# Altium footprint library Random.PcbLib: 15 footprints
Each footprint in its own frame and in the unit in brackets; x right, y up, seen from the top. Pads: shape width x height; smd on the part's side, far side on the other; paste and mask are expansions set on the pad; w line width, h text height; cw(c..) or ccw(c..) is an arc to the next point about the centre after c.
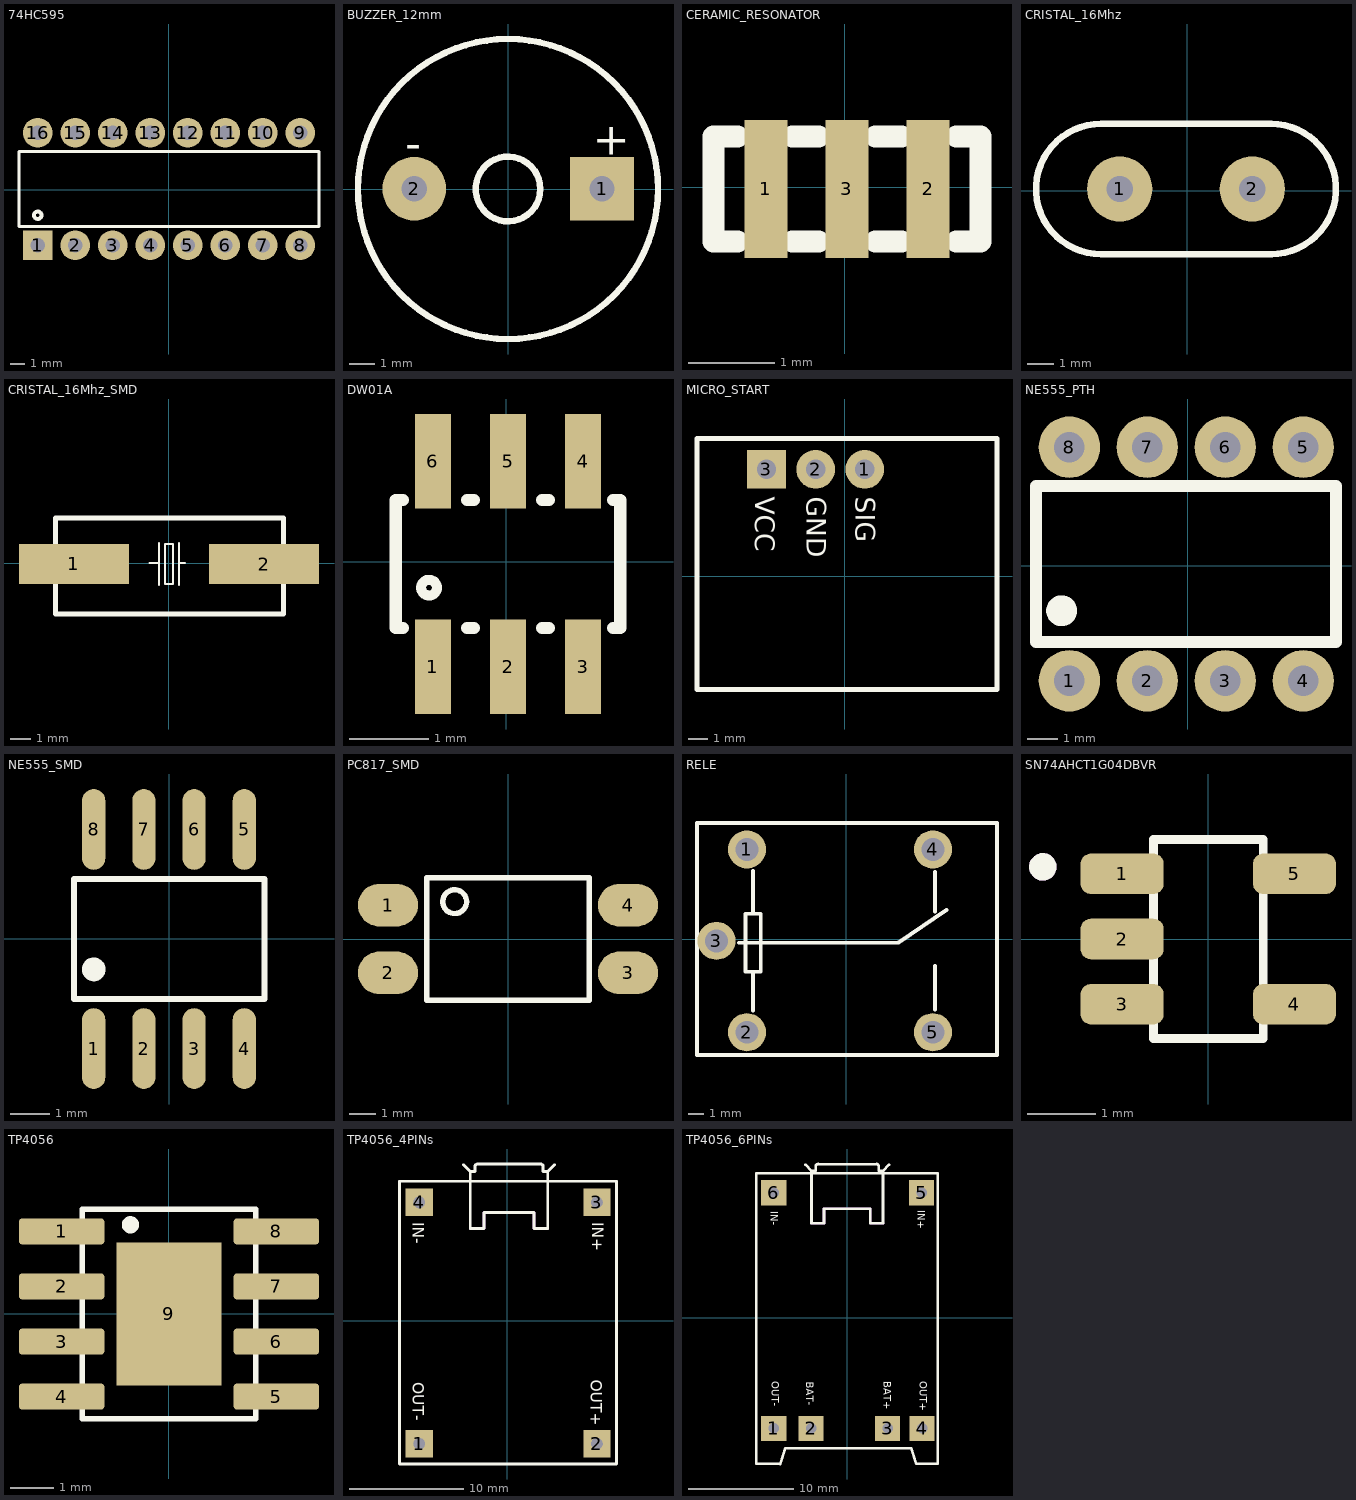
[diagram p0: the footprints below, top view; thin cyan lines are the x and y axes]

## 74HC595 [mm] "SHIFT REGISTER 8-BIT DIP-16"
pads (16):
  rect 2x2 hole 1: 1(-8.881,-3.767)
  round 2 hole 1: 2(-6.341,-3.767) 3(-3.801,-3.767) 4(-1.261,-3.767) 5(1.279,-3.767) 6(3.819,-3.767) 7(6.359,-3.767) 8(8.899,-3.767) 9(8.899,3.853) 10(6.359,3.853) 11(3.819,3.853) 12(1.279,3.853) 13(-1.261,3.853) 14(-3.801,3.853) 15(-6.341,3.853) 16(-8.881,3.853)
Top Overlay:
  circle w0.254: c-8.881,-1.735 r0.254
  lines w0.229: -10.151,-2.497 10.169,-2.497 10.169,2.583 -10.151,2.583 -10.151,-2.497
3D body "74HC595.STEP": height 8.48, standoff -2.86, extent -10.139,-5.101 10.181,5.059

## BUZZER_12mm [mm] "BUZZER MAGNETIC 12MM"
pads (2):
  rect 2.5x2.5 hole 1: 1(3.693,0.008)
  round 2.5 hole 1: 2(-3.683,0.008)
Top Overlay:
  circle w0.254: c0,0 r1.27
  circle w0.254: c0,0 r5.893
  text "-" at -4.039,1.169 h1.27
  text "+" at 3.327,1.338 h1.27
3D body "BUZZER_12mm.step": height 9.51, standoff -2.34, extent -5.997,-5.969 5.997,6.029

## CERAMIC_RESONATOR [mil]
pads (3):
  rect 19.7x63 smd: 1(-36,-0.8) 2(38,-0.8) 3(1,-0.8)
Top Overlay:
  lines w10: -49,-24.8 -60,-24.8 -60,23.2 -49,23.2 ; -24,-24.8 -12,-24.8 ; -24,23.2 -12,23.2 ; 14,-24.8 26,-24.8 ; 14,23.2 26,23.2 ; 51,-24.8 62,-24.8 62,23.2 51,23.2
3D body "CERAMIC_RESONATOR.stp": height 27.56, standoff 0, extent -61.99,-26.39 63.99,24.79

## CRISTAL_16Mhz [mm] "CRYSTAL 16MHZ PTH"
pads (2):
  round 2.5 hole 1: 1(-2.586,0.064) 2(2.494,0.064)
Top Overlay:
  lines w0.127: -3.259,2.496 3.242,2.496 3.242,2.623 -3.259,2.623 -3.259,2.496 ; -3.237,-2.498 -3.237,-2.371 3.263,-2.371 3.263,-2.498 -3.237,-2.498
  lines w0.254: -3.296,-2.436 cw(c-3.296,0.064) -3.296,2.564 ; 3.204,-2.436 ccw(c3.204,0.064) 3.204,2.564
3D body "Cristal_16MHz.STEP": height 3.55, standoff -1.95, extent -5.604,-2.177 5.396,2.323

## CRISTAL_16Mhz_SMD [mm]
pads (2):
  rect 5.5x2 smd: 1(-4.743,-0.039) 2(4.757,-0.04)
Top Overlay:
  lines w0.1: -0.963,0.004 -0.563,0.004 ; -0.5,-1.1 -0.5,1 ; -0.2,0.92 -0.2,-1.05 0.2,-1.05 0.2,0.92 ; -0.2,0.95 0.2,0.95 ; 0.5,-1.1 0.5,1 ; 0.5,0.004 0.8,0.004
  lines w0.254: -5.676,-2.543 -5.676,2.257 5.724,2.257 5.724,-2.543 -5.676,-2.543
3D body "CRYSTAL_16MHz_SMD.STEP": height 4.3, standoff 0, extent -6.604,-2.56 6.596,2.24

## DW01A [mm] "BATTERY PROTECTION IC"
pads (6):
  rect 0.45x1.2 smd: 1(-0.926,-1.332) 2(0.024,-1.332) 3(0.974,-1.332) 4(0.974,1.268) 5(0.024,1.268) 6(-0.926,1.268)
Top Overlay:
  circle w0.127: c-0.976,-0.332 r0.1
  lines w0.152: -1.304,-0.842 -1.398,-0.842 -1.398,0.778 -1.304,0.778 ; -0.498,-0.842 -0.404,-0.842 ; -0.498,0.778 -0.404,0.778 ; 0.452,-0.842 0.546,-0.842 ; 0.452,0.778 0.546,0.778 ; 1.352,-0.842 1.446,-0.842 1.446,0.778 1.352,0.778
3D body "step_temp.STEP": height 1.45, standoff 0, extent -1.426,-1.432 1.474,1.368

## MICRO_START [mm]
pads (3):
  round 2 hole 1: 1(1.047,5.523) 2(-1.493,5.523)
  rect 2x2 hole 1: 3(-4.033,5.523)
Top Overlay:
  lines w0.254: -7.62,-5.842 -7.62,7.112 7.874,7.112 7.874,-5.842 -7.62,-5.842
  text "VCC" at -4.623,4.115 h1
  text "SIG" at 0.584,4.115 h1
  text "GND" at -1.956,4.115 h1
3D body "MICROSTART.step": height 3.58, standoff 0.4, extent -7.619,-5.806 7.873,6.985

## NE555_PTH [mm]
pads (8):
  round 2 hole 1: 1(-3.864,-3.745) 2(-1.324,-3.745) 3(1.216,-3.745) 4(3.756,-3.745) 5(3.756,3.875) 6(1.216,3.875) 7(-1.324,3.875) 8(-3.864,3.875)
Top Overlay:
  circle w0.5: c-4.118,-1.459 r0.254
  lines w0.4: -4.953,-2.475 4.826,-2.475 4.826,2.605 -4.953,2.605 -4.953,-2.475
3D body "NE555_PTH.SLDPRT": height 9.41, standoff -3.17, extent -5.08,-5.334 4.953,5.588

## NE555_SMD [mm]
pads (8):
  oval 0.588x2.045 smd: 1(-1.911,-2.785) 2(-0.641,-2.785) 3(0.629,-2.785) 4(1.899,-2.785) 5(1.899,2.76) 6(0.629,2.76) 7(-0.641,2.76) 8(-1.911,2.76)
Top Overlay:
  circle w0.3: c-1.911,-0.782 r0.15
  lines w0.152: -2.413,-1.534 2.413,-1.534 2.413,1.509 -2.413,1.509 -2.413,-1.534
3D body "NE555_SMD.STEP": height 1.75, standoff 0, extent -2.451,-2.997 2.451,2.997

## PC817_SMD [mm]
pads (4):
  oval 2.25x1.6 smd: 1(-4.5,1.27) 2(-4.5,-1.27) 3(4.5,-1.27) 4(4.5,1.27)
Top Overlay:
  circle w0.2: c-2,1.4 r0.447
  lines w0.2: -3.05,-2.3 3.05,-2.3 3.05,2.3 -3.05,2.3 -3.05,-2.3
3D body "PC817 _SMD.STEP": height 3.6, standoff 0, extent -4.8,-2.3 4.8,2.3

## RELE [mm]
pads (5):
  round 2.5 hole 1.5: 1(-6.501,5.88) 2(-6.501,-6.12) 3(-8.501,-0.12) 4(5.699,5.88) 5(5.699,-6.12)
Top Overlay:
  lines w0.254: -7.026,-0.247 3.425,-0.247 6.6,1.912 ; -6.1,-4.694 -6.1,-2.152 ; -6.1,1.658 -6.1,4.454 ; 5.838,-4.645 5.838,-1.771 ; 5.838,1.785 5.838,4.405 ; -9.779,-7.62 -9.779,7.62 9.906,7.62 9.906,-7.62 -9.779,-7.62 ; -6.608,-2.152 -6.608,1.658 -5.592,1.658 -5.592,-2.152 -6.608,-2.152
3D body "RELE.stp": height 15.5, standoff -5, extent -9.673,-7.7 9.927,7.7

## SN74AHCT1G04DBVR [mm]
pads (5):
  rrect50% 1.21x0.59 smd: 1(-1.255,0.95) 2(-1.255,0) 3(-1.255,-0.95) 4(1.255,-0.95) 5(1.255,0.95)
Top Overlay:
  circle w0.2: c-2.41,1.05 r0.1
  lines w0.127: -0.8,-1.45 -0.8,1.45 0.8,1.45 0.8,-1.45 -0.8,-1.45
Mechanical 13:
  circle w0.2: c-2.41,1.05 r0.1
3D body "step_temp.STEP": height 1.45, standoff 0, extent -1.4,-1.45 1.4,1.45

## TP4056 [mm] "CHIP BATTERY CHARGER"
pads (9):
  rrect25% 1.97x0.6 smd: 1(-2.475,1.905) 2(-2.475,0.635) 3(-2.475,-0.635) 4(-2.475,-1.905) 5(2.475,-1.905) 6(2.475,-0.635) 7(2.475,0.635) 8(2.475,1.905)
  rect 2.413x3.302 smd paste-3: 9(0,0)
Top Overlay:
  circle w0.2: c-0.889,2.057 r0.1
  lines w0.127: -2,-2.413 -2,2.413 2,2.413 2,-2.413 -2,-2.413
Top Paste:
  region: 0.645,-0.82 -0.645,-0.82 -0.645,0.82 0.645,0.82
3D body "step_temp.STEP": height 1.75, standoff 0, extent -3,-2.45 3,2.45

## TP4056_4PINs [mm] "MODULE BATTERY CHARGER 4 PINS"
pads (4):
  rect 2.4x2.4 hole 1: 1(-7.747,-10.795) 2(7.874,-10.795) 3(7.874,10.414) 4(-7.747,10.414)
Top Overlay:
  lines w0.254: -3.839,13.724 -3.255,13.139 ; -3.255,9.736 -3.255,8.136 ; -2.849,13.571 -2.849,13.139 -3.255,13.139 ; -2.848,13.585 cw(c-2.613,13.545) -2.599,13.783 ; -2.595,13.774 2.943,13.774 ; 2.951,13.783 cw(c2.913,13.548) 3.152,13.535 ; 3.146,13.52 3.146,13.139 3.552,13.139 ; 3.552,9.736 3.552,8.136 ; 4.136,13.724 3.552,13.139 ; -3.255,8.136 -2.061,8.136 -2.061,9.533 2.358,9.533 2.358,8.136 3.552,8.136 ; -3.255,8.136 -3.255,12.428 -3.255,13.139 ; 3.552,8.136 3.552,12.428 3.552,13.139 ; -9.464,-12.573 -9.464,12.267 9.579,12.267 9.579,-12.573 -9.464,-12.573
  text "IN-" at -8.306,8.687 h1
  text "IN+" at 7.442,8.687 h1
  text "OUT-" at -8.306,-5.41 h1
  text "OUT+" at 7.315,-5.156 h1
Mechanical 15:
  lines w0.254: -3.255,8.136 -2.061,8.136 -2.061,9.533 2.358,9.533 2.358,8.136 3.552,8.136
3D body "TP4056_4PINS.stp": height 5.52, standoff 0, extent -9.588,-12.7 9.588,13.744

## TP4056_6PINs [mm] "MODULE BATTERY CHARGER 6 PINS"
pads (6):
  rect 2.4x2.4 hole 1: 1(-6.985,-10.52) 2(-3.431,-10.52) 3(3.87,-10.52) 4(7.151,-10.52) 5(7.112,11.938) 6(-6.985,11.938)
Top Overlay:
  lines w0.254: -3.966,14.613 -3.382,14.028 ; -3.81,13.78 3.81,13.78 ; -3.382,10.625 -3.382,9.025 ; -2.976,14.46 -2.976,14.028 -3.382,14.028 ; -2.975,14.474 cw(c-2.74,14.434) -2.726,14.672 ; -2.722,14.663 2.816,14.663 ; 2.824,14.672 cw(c2.786,14.437) 3.025,14.424 ; 3.019,14.409 3.019,14.028 3.425,14.028 ; 3.425,10.625 3.425,9.025 ; 4.009,14.613 3.425,14.028 ; -3.382,9.025 -3.382,13.317 -3.382,14.028 ; -3.382,9.025 -2.188,9.025 -2.188,10.422 2.231,10.422 2.231,9.025 3.425,9.025 ; 3.425,9.025 3.425,13.317 3.425,14.028 ; -8.636,-13.904 -6.375,-13.918 -5.876,-12.42 6.134,-12.42 6.619,-13.906 8.636,-13.906 8.636,13.78 -8.636,13.78 -8.636,-13.904
  text "BAT+" at 3.517,-6.02 h0.7
  text "BAT-" at -3.898,-6.083 h0.7
  text "OUT-" at -7.18,-6.02 h0.7
  text "IN-" at -7.28,10.18 h0.7
  text "OUT+" at 6.917,-6.02 h0.7
  text "IN+" at 6.72,10.28 h0.7
Mechanical 15:
  lines w0.254: -3.382,9.025 -2.188,9.025 -2.188,10.422 2.231,10.422 2.231,9.025 3.425,9.025
3D body "TP4056 .step": height 4.22, standoff 0, extent -8.6,-13.877 8.6,14.672